# EAGLE library part P9813-SSOP16 (library IC)
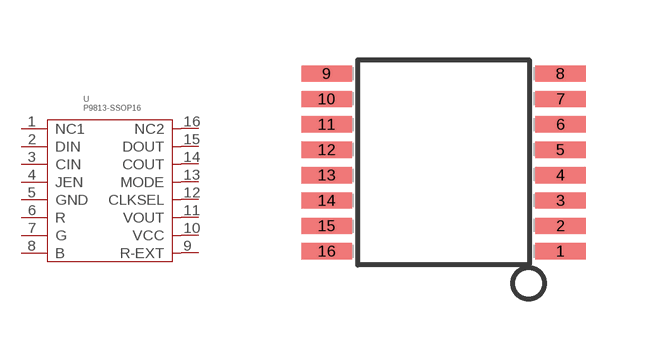
[diagram p116: symbol with the pads of SSOP16; footprint SSOP16]

Designator prefix U

## P9813-SSOP16  [SSOP16]
1  NC1  nc
2  DIN  in
3  CIN  in
4  JEN  in
5  GND  sup
6  R  out
7  G  out
8  B  out
9  R-EXT  in
10  VCC  sup
11  VOUT  out
12  CLKSEL  in
13  MODE  in
14  COUT  out
15  DOUT  out
16  NC2  nc

## Footprint SSOP16 (pad centres in mm)
Small Shrink Outline Package
smd 1.27 x 0.406: 1 2.925,-2.223; 2 2.925,-1.587; 3 2.925,-0.953; 4 2.925,-0.318; 5 2.925,0.318; 6 2.925,0.953; 7 2.925,1.587; 8 2.925,2.223; 9 -2.925,2.223; 10 -2.925,1.587; 11 -2.925,0.953; 12 -2.925,0.318; 13 -2.925,-0.318; 14 -2.925,-0.953; 15 -2.925,-1.587; 16 -2.925,-2.223